# Altium footprint library PC_0805.PcbLib: 1 footprints
Each footprint in its own frame and in the unit in brackets; x right, y up, seen from the top. Pads: shape width x height; smd on the part's side, far side on the other; paste and mask are expansions set on the pad; w line width, h text height; cw(c..) or ccw(c..) is an arc to the next point about the centre after c.
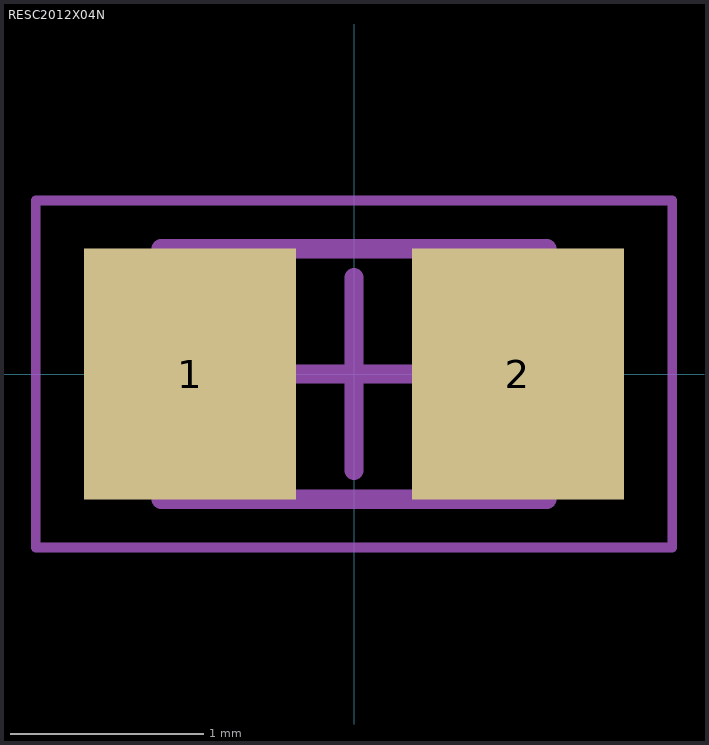
[diagram p0: the footprint, top view; thin cyan lines are the x and y axes]

## RESC2012X04N [mm] "Chip Resistor, 2-Leads, Body 2,00x1,20mm, IPC Medium Density"
height 0.45
pads (2):
  rect 1.1x1.3 smd: 1(-0.85,0) 2(0.85,0)
Mechanical 13:
  lines w0.1: -1,-0.65 -1,0.65 1,0.65 1,-0.65 -1,-0.65
Mechanical 15:
  lines w0.05: -1.65,-0.9 -1.65,0.9 1.65,0.9 1.65,-0.9 -1.65,-0.9
  lines w0.1: -0.5,0 0.5,0 ; 0,-0.5 0,0.5
3D body "RESC2012X04N.step": height 0.45, standoff 0, extent -1,-0.65 1,0.65